# Altium schematic symbol library KSC221JLFS.SchLib: 1 symbol
Pins are listed as number, name and electrical type; pins without a type are passive.

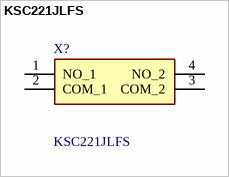
[diagram p0: symbol KSC221JLFS]

## KSC221JLFS
designator X?
SEALED TACT SWITCH FOR SMT; Manufacturer_Name: LITTELFUSE; Geometry.Height: 3.5mm; Manufacturer_Part_Number: KSC221JLFS; Mouser Part Number: *; Mouser Price/Stock: *; Arrow Part Number: *; Arrow Price/Stock: *; Datasheet Link: https://www.ckswitches.com/media/1968/ksc2.pdf
footprint KSC221JLFS
pins: 1 NO_1, 2 COM_1, 3 COM_2, 4 NO_2